# EAGLE library part AS1109 (library MyParts)
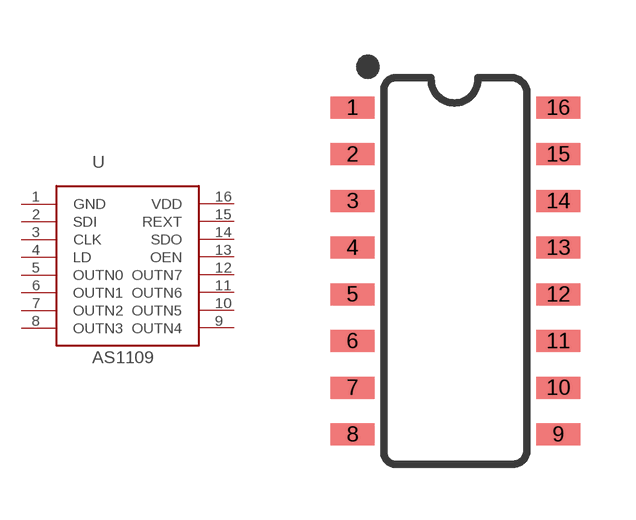
[diagram p1: symbol with the pads of SO16; footprint SO16]

Designator prefix -

## AS1109  [SO16]
1  GND  pwr
2  SDI
3  CLK
4  LD
5  OUTN0
6  OUTN1
7  OUTN2
8  OUTN3
9  OUTN4
10  OUTN5
11  OUTN6
12  OUTN7
13  OEN
14  SDO
15  REXT
16  VDD  pwr

## Footprint SO16 (pad centres in mm)
SOIC-16 Specifications: Pin count: 16 Width:0.15" Example device(s): HEX_CONVERTER
smd 1.2 x 0.6: 1 -2.8,4.445; 2 -2.8,3.175; 3 -2.8,1.905; 4 -2.8,0.635; 5 -2.8,-0.635; 6 -2.8,-1.905; 7 -2.8,-3.175; 8 -2.8,-4.445; 9 2.8,-4.445; 10 2.8,-3.175; 11 2.8,-1.905; 12 2.8,-0.635; 13 2.8,0.635; 14 2.8,1.905; 15 2.8,3.175; 16 2.8,4.445